# EAGLE library part BLUETOOTH (library FCC_parts)
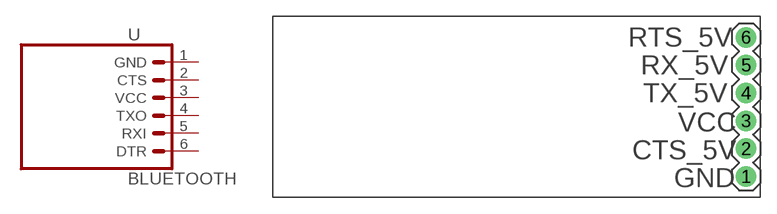
[diagram p8: symbol with the pads of 1X06BLUETOOTH; footprint 1X06BLUETOOTH]

Designator prefix -

## BLUETOOTH  [1X06BLUETOOTH]
1  GND  pas
2  CTS  pas
3  VCC  pas
4  TXO  pas
5  RXI  pas
6  DTR  pas

## Footprint 1X06BLUETOOTH (pad centres in mm)
Plated Through Hole - 6 Pin Specifications: Pin count:6 Pin pitch:0.1" Example device(s): CONN_06
drill 1.016 pad 1.88: 1 43.18,1.905; 2 43.18,4.445; 3 43.18,6.985; 4 43.18,9.525; 5 43.18,12.065; 6 43.18,14.605